# Altium schematic symbol library ADA4505-2.SchLib: 1 symbol
Pins are listed as number, name and electrical type; pins without a type are passive.

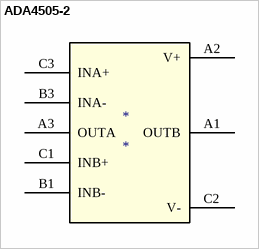
[diagram p0: symbol ADA4505-2]

## ADA4505-2
designator *
footprint ADA4505-2
pins: A1 OUTB, A2 V+ (power), A3 OUTA, B1 INB-, B3 INA-, C1 INB+, C2 V- (power), C3 INA+